# Altium integrated library Connectors - Switch.IntLib: 16 symbols
Pins are listed as number, name and electrical type; pins without a type are passive.

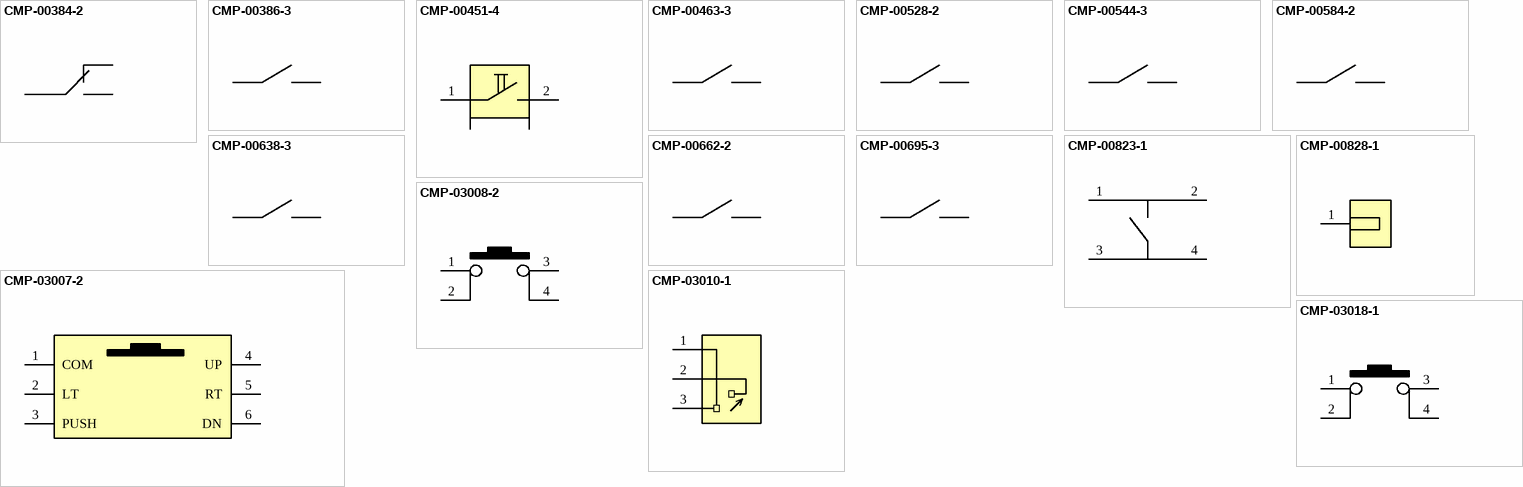
[diagram p0: symbols CMP-00384-2 to CMP-03018-1]

## CMP-00384-2
designator SA?
Switch 3pin; Component Name: Terminal rocker switcher,  AE-C1520ALAAF; Value: AE-C1520ALAAF; ComponentLink1Description: Datasheet; ComponentLink1URL: http://datasheet.octopart.com/C1300AAAAA-Arcolectric-datasheet-12559528.pdf; Marking: *; Package: Terminal 30x11 mm
pins: 1, 2, 3

## CMP-00386-3
designator SB?
Switch 2pin; Component Name: Push button,  GQ-12B-10/J/B/A; Value: GQ-12B-10/J/B/A; ComponentLink1Description: Datasheet; ComponentLink1URL: http://www.eccmec.it/wp-content/uploads/2013/02/Catalogo-Onpow-Pulsanti-Metallici-2013.pdf; Marking: *; Package: Terminal d12 mm
pins: 1, 2

## CMP-00451-4
designator SW?, comment SWT-3R
Component Name: Button, SWT-3R; Package: SWT-3R; Marking: SWT-3R; Value: SWT-3R; ComponentLink1Description: Datasheet; ComponentLink1URL: http://www.radiomag.kiev.ua/datasheets/SWT_3.JPG
footprint SWT-3R
pins: 1, 2, 3, 4

## CMP-00463-3
designator SB?, comment SWT-39
Component Name: Button,  SWT-39; Package: 6.1x3.65; Marking: SWT-39; Value: SWT-39; ComponentLink1Description: Datasheet; ComponentLink1URL: http://www.klsele.com/admin/product_upload/20120515131402KLS7-TS3611.pdf
footprint SWT-39
pins: 1, 2

## CMP-00528-2
designator SB?, comment B3U-3000P
Component Name: Button,  B3U-3000P; Value: B3U-3000P; ComponentLink1Description: Datasheet; ComponentLink1URL: http://www.kosmodrom.com.ua/pdf/omron_B3U_data.pdf; Marking: B3U-3000P; Package: 3x2.5
footprint B3U3000p
pins: 1, 2

## CMP-00544-3
designator SB?, comment B3U-1000P
Component Name: Button,  B3U-1000P; Value: B3U-1000P; ComponentLink1Description: Datasheet; ComponentLink1URL: http://www.kosmodrom.com.ua/pdf/omron_B3U_data.pdf; Marking: B3U-1000P; Package: 3x2.5
footprint B3U1000P
pins: 1, 2

## CMP-00584-2
designator SB?, comment TACT-35N-F
Component Name: Button,  TACT-35N-F; Value: TACT-35N-F; ComponentLink1Description: Datasheet; ComponentLink1URL: http://www.apem.com/files/apem/brochures/MJTP_6MM.pdf; Marking: TACT-35N-F; Package: 6x3
footprint Switch 6x3mm
pins: 1, 2

## CMP-00638-3
designator SB?, comment 450-1657-ND
Component Name: Tactile Switch SPST, 450-1657-ND, PTH; Value: 450-1657-ND; ComponentLink1Description: Datasheet; ComponentLink1URL: http://www.te.com/commerce/DocumentDelivery/DDEController?Action=srchrtrv&DocNm=1308111-1_SWITCHES_CORE_PROGRAM_CATALOG&DocType=CS&DocLang=English; Marking: 450-1657-ND; Package: 7.1x7.0
footprint Tact Switch 7.1x7mm
pins: 1, 2

## CMP-00662-2
designator SB?, comment SKHLLFA010
Component Name: Tactile Switch, SKHLLFA010, PTH; Value: SKHLLFA010; ComponentLink1Description: Datasheet; ComponentLink1URL: http://www.alps.com/prod/info/E/HTML/Tact/SnapIn/SKHL/SKHLLFA010.html#Soldering Conditions; Marking: SKHLLFA010; Package: 6x3.5
footprint SKHL
pins: 1, 2

## CMP-00695-3
designator SB?, comment LS12
LS12T2-T; Component Name: Tactile Switch, LS12T2-T; ComponentLink1URL: https://media.digikey.com/pdf/Data%20Sheets/Lite-On%20PDFs/LS12T2-T.PDF; Value: LS12T2-T; ComponentLink1Description: Datasheet; Marking: LS12; Package: 3.9x2.9
footprint LS12
pins: 1, 2

## CMP-00823-1
designator SB?, comment PTS645S
Component Name: Tactile Switch, PTS645SH50SMTR92 LFS; ComponentLink1URL: https://www.ckswitches.com/media/1471/pts645.pdf; Value: PTS645S; ComponentLink1Description: Datasheet; Marking: PTS645S; Package: 6x6
footprint PTS645S
pins: 1, 2, 3, 4

## CMP-00828-1
designator SB?
Button 01x01; ComponentLink1Description: Datasheet; Component Name: Button 01x01
footprint Button
pins: 1

## CMP-03007-2
designator SB?, comment JS5208
Component Name: Navigation Switch, JS5208; ComponentLink1URL: http://spec_sheets.e-switch.com/specs/P200020.pdf; Value: JS5208; ComponentLink1Description: Datasheet; Marking: JS5208; Package: 12.4x12.4
footprint JS5208
pins: 1 COM, 2 LT, 3 PUSH, 4 UP, 5 RT, 6 DN

## CMP-03008-2
designator SB?, comment TACTMS-24N
Component Name: Tactile Switch, TACTMS-24N; ComponentLink1URL: https://voron.ua/files/pdf/button/tss12-040.pdf; Value: TACTMS-24N; ComponentLink1Description: Datasheet; Marking: TACTMS-24N; Package: 12x12
footprint B3FS-4055P 12x12
pins: 1, 2, 3, 4

## CMP-03010-1
designator SB?, comment D2F-01L3
Component Name: Switch snap action, D2F-01L3; ComponentLink1URL: https://media.digikey.com/pdf/Data%20Sheets/Omron%20PDFs/D2F_0318_DS.pdf; Value: D2F-01L3; ComponentLink1Description: Datasheet; Marking: D2F-01L3; Package: 12.8x5.8
footprint D2F-01L3
pins: 1, 2, 3

## CMP-03018-1
designator SB?, comment B3FS-4055P
Component Name: Tactile Switch, B3FS-4055P; ComponentLink1URL: http://spec_sheets.e-switch.com/specs/P200020.pdf; Value: B3FS-4055P; ComponentLink1Description: Datasheet; Marking: B3FS-4055P; Package: 12x12
footprint B3FS-4055P 12x12
pins: 1, 2, 3, 4